# Altium schematic symbol library Power-BMIC-TP4056.SchLib: 1 symbol
Pins are listed as number, name and electrical type; pins without a type are passive.

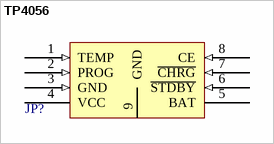
[diagram p0: symbol TP4056]

## TP4056
designator JP?
pins: 1 TEMP (in), 2 PROG (in), 3 GND (in), 4 VCC (power), 5 BAT (power), 6 ~{STDBY} (in), 7 ~{CHRG} (in), 8 CE (in), 9 GND (power)